# Altium footprint library Unknown.PcbLib: 1 footprints
Each footprint in its own frame and in the unit in brackets; x right, y up, seen from the top. Pads: shape width x height; smd on the part's side, far side on the other; paste and mask are expansions set on the pad; w line width, h text height; cw(c..) or ccw(c..) is an arc to the next point about the centre after c.
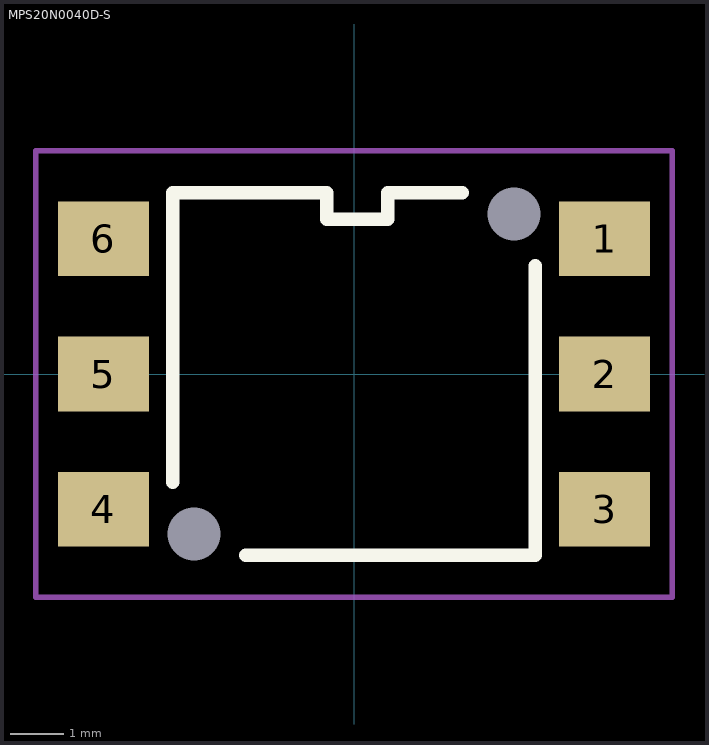
[diagram p0: the footprint, top view; thin cyan lines are the x and y axes]

## MPS20N0040D-S [mm] "Pressure sensor-SOP6"
pads (8):
  rect 0x0 hole 1 unplated: 0(-3,-3) 0(3,3)
  rect 1.7x1.4 smd: 1(4.7,2.54) 2(4.7,0) 3(4.7,-2.54) 4(-4.7,-2.54) 5(-4.7,0) 6(-4.7,2.54)
Top Overlay:
  lines w0.254: -3.4,-2.032 -3.4,3.4 -0.508,3.4 -0.508,2.9 0.635,2.9 0.635,3.4 2.032,3.4 ; -2.032,-3.4 3.4,-3.4 3.4,2.032
Mechanical 15:
  lines w0.1: -5.969,-4.191 -5.969,4.191 5.969,4.191 5.969,-4.191 -5.969,-4.191
3D body "User Library-XFGM-6-1.step": height 9.6, standoff 0, extent -5.723,-4 5.722,4